# Altium schematic symbol library KF7.62-3P1_KF7.62-3P.SCHLIB: 1 symbol
Pins are listed as number, name and electrical type; pins without a type are passive.

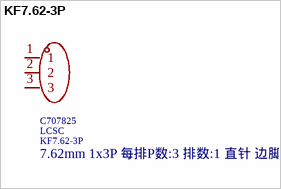
[diagram p0: symbol KF7.62-3P]

## KF7.62-3P
designator U??  Supplier: LCSC  Supplier Part: C707825  LCSC Part Name: 7.62mm 1x3P 每排P数:3 排数:1 直针 边脚  (hidden comment: KF7.62-3P)
Manufacturer: KEFA(科发); Barrier Type: 2-Side; Pitch: 7.62mm; Add into BOM: yes; Number of Positions or Pins: 1x3P; Pin Location: Side Mount; Number of PINs Per Row: 3; Current Rating: 24A; Voltage Rating (Max): 450V; Wire Gauge - AWG: 12~22; Wire Gauge - mm2: 2.5; Symbol: KF7.62-3P; Device: KF7.62-3P; JLCPCB Part Class: Extended Part; Supplier Footprint: 插件,P=7.62mm; Datasheet: https://item.szlcsc.com/datasheet/KF7.62-3P/745034.html; Convert to PCB: yes; Mounting Type: Straight Pin; Number of Pins: 3P; Number of Rows: 1; Operating Temperature: -40℃~+105℃; Color: Black; Manufacturer Part: KF7.62-3P
footprint CONN-TH_KF7.62-3P
3D model CONN-TH_KF7.62-3P
pins: 1, 2, 3